# Altium schematic symbol library Bridge.Schlib: 1 symbol
Pins are listed as number, name and electrical type; pins without a type are passive.

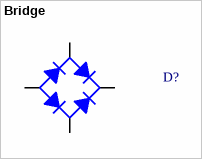
[diagram p0: symbol Bridge]

## Bridge
designator D?
Full Wave Diode Bridge
pins: +, -, AC1, AC2